# Altium footprint library Diodo SMD Schottky 0402.PcbLib: 1 footprints
Each footprint in its own frame and in the unit in brackets; x right, y up, seen from the top. Pads: shape width x height; smd on the part's side, far side on the other; paste and mask are expansions set on the pad; w line width, h text height; cw(c..) or ccw(c..) is an arc to the next point about the centre after c.
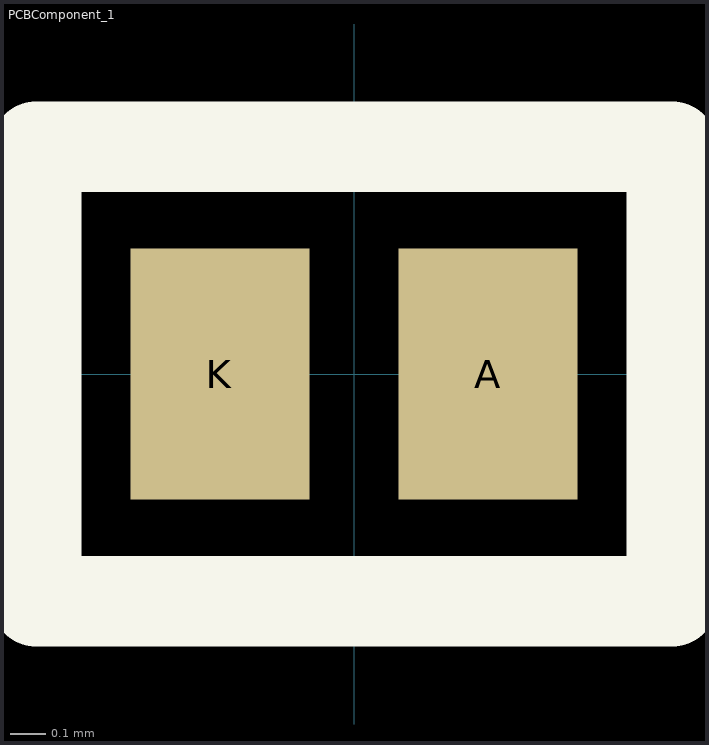
[diagram p0: the footprint, top view; thin cyan lines are the x and y axes]

## PCBComponent_1 [mm]
pads (2):
  rect 0.5x0.7 smd: A(0.375,0) K(-0.375,0)
Top Overlay:
  lines w0.254: -0.889,-0.635 -0.889,0.635 0.889,0.635 0.889,-0.635 -0.889,-0.635
3D body "User Library-CDBQ0230L.step": height 0.56, standoff 0, extent -0.546,-0.33 0.546,0.33